# Altium integrated library Microchip Power Mgt Line Regulator.IntLib: 1066 symbols (part 23 of 26)
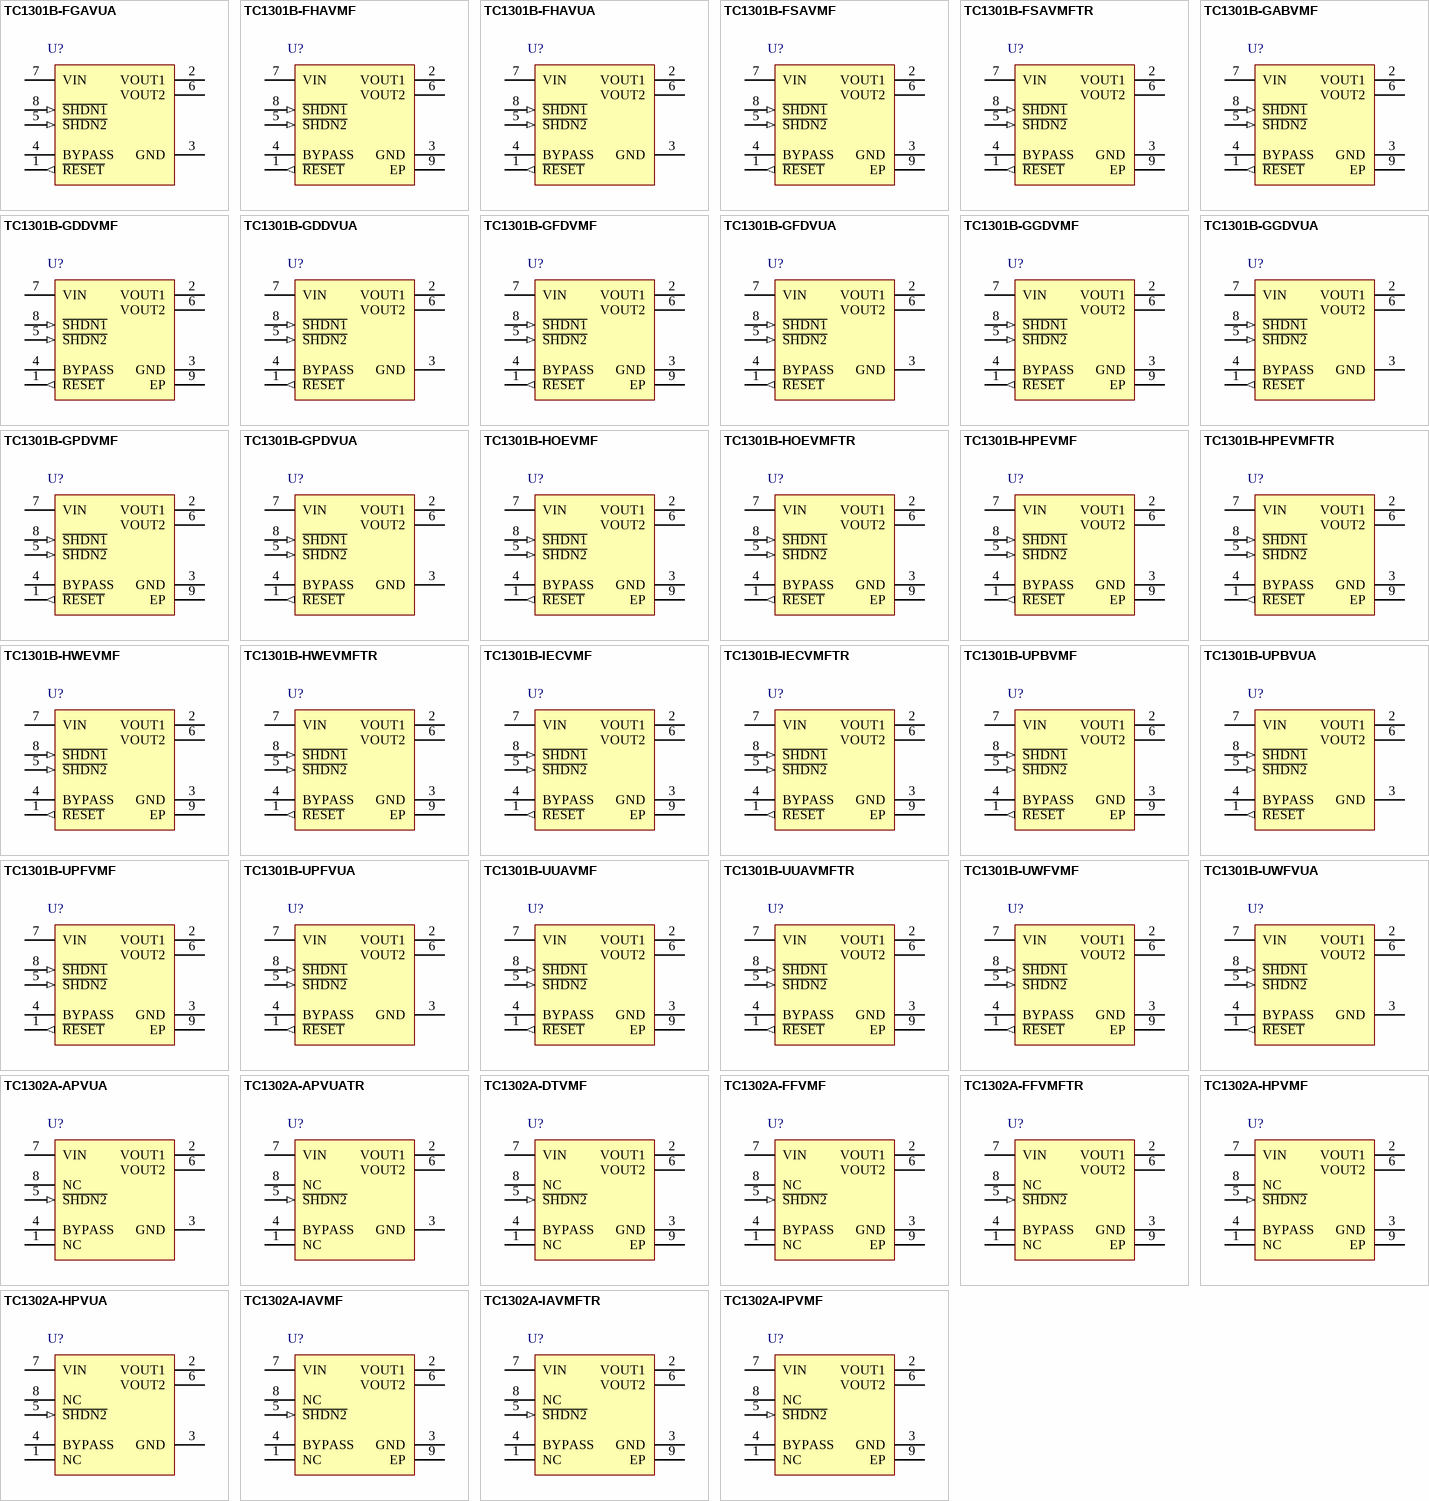
[diagram p48: symbols TC1301B-FGAVUA to TC1302A-IPVMF]

## TC1301B-GABVMF
designator U?
Dual LDO with Microcontroller Active-Low Reset Function, 8-Pin DFN, Extended Temperature; Published: 2-Dec-2009; DatasheetVersion: revC, Feb-2008; PackageVersion: revBB, Aug-2009; PackageReference: DFN-MF8; Publisher: Altium Limited; PackageDescription: 8-Lead Plastic Dual Flat, No Lead Package (MF) - 3x3x0.9mm Body [DFN]; ComponentLink1Description: Datasheet; ComponentLink1URL: http://ww1.microchip.com/downloads/en/DeviceDoc/21798c.pdf; ComponentLink2Description: Packaging Specification; ComponentLink2URL: http://www.microchip.com/stellent/groups/techpub_sg/documents/packagingspec/en012702.pdf; ComponentLink3Description: Microchip.com Home; ComponentLink3URL: http://www.microchip.com/
footprint DFN-MF8 (SON, 8-Leads, Body 3x3mm, Pitch 0.65mm, Microchip Recommended)
pins: 1 ~{RESET} (out), 2 VOUT1 (power), 3 GND (power), 4 BYPASS, 5 ~{SHDN2} (in), 6 VOUT2 (power), 7 VIN (power), 8 ~{SHDN1} (in), 9 EP (power)

## TC1301B-GDDVMF
designator U?
Dual LDO with Microcontroller Active-Low Reset Function, 8-Pin DFN, Extended Temperature; Published: 29-Jan-2009; DatasheetVersion: revC, Feb-2008; PackageVersion: revBB, Aug-2009; PackageReference: DFN-MF8; Publisher: Altium Limited; PackageDescription: 8-Lead Plastic Dual Flat, No Lead Package (MF) - 3x3x0.9mm Body [DFN]; Supplier 1: Digi-Key; Supplier Part Number 1: TC1301B-GDDVMF-ND; ComponentLink1Description: Datasheet; ComponentLink1URL: http://ww1.microchip.com/downloads/en/DeviceDoc/21798c.pdf; ComponentLink2Description: Packaging Specification; ComponentLink2URL: http://www.microchip.com/stellent/groups/techpub_sg/documents/packagingspec/en012702.pdf; ComponentLink3Description: Microchip.com Home; ComponentLink3URL: http://www.microchip.com/
footprint DFN-MF8 (SON, 8-Leads, Body 3x3mm, Pitch 0.65mm, Microchip Recommended)
pins: 1 ~{RESET} (out), 2 VOUT1 (power), 3 GND (power), 4 BYPASS, 5 ~{SHDN2} (in), 6 VOUT2 (power), 7 VIN (power), 8 ~{SHDN1} (in), 9 EP (power)

## TC1301B-GDDVUA
designator U?
Dual LDO with Microcontroller Active-Low Reset Function, 8-Pin MSOP, Extended Temperature; Published: 29-Jan-2009; DatasheetVersion: revC, Feb-2008; PackageVersion: revBB, Aug-2009; PackageReference: MSOP-UA8; Publisher: Altium Limited; PackageDescription: 8-Lead Plastic Micro Small Outline Package (UA) [MSOP]; Supplier 1: Digi-Key; Supplier Part Number 1: TC1301B-GDDVUA-ND; Code_JEDEC: MO-187-AA; ComponentLink1Description: Datasheet; ComponentLink1URL: http://ww1.microchip.com/downloads/en/DeviceDoc/21798c.pdf; ComponentLink2Description: Packaging Specification; ComponentLink2URL: http://www.microchip.com/stellent/groups/techpub_sg/documents/packagingspec/en012702.pdf; ComponentLink3Description: Microchip.com Home; ComponentLink3URL: http://www.microchip.com/
footprint MSOP-UA8_N (TSOP, 8-Leads, Body 3x3mm, Pitch 0.65mm, IPC Medium Density)
footprint MSOP-UA8_L (TSOP, 8-Leads, Body 3x3mm, Pitch 0.65mm, IPC High Density)
footprint MSOP-UA8_M (TSOP, 8-Leads, Body 3x3mm, Pitch 0.65mm, IPC Low Density)
pins: 1 ~{RESET} (out), 2 VOUT1 (power), 3 GND (power), 4 BYPASS, 5 ~{SHDN2} (in), 6 VOUT2 (power), 7 VIN (power), 8 ~{SHDN1} (in)

## TC1301B-GFDVMF
designator U?
Dual LDO with Microcontroller Active-Low Reset Function, 8-Pin DFN, Extended Temperature; Published: 29-Jan-2009; DatasheetVersion: revC, Feb-2008; PackageVersion: revBB, Aug-2009; PackageReference: DFN-MF8; Publisher: Altium Limited; PackageDescription: 8-Lead Plastic Dual Flat, No Lead Package (MF) - 3x3x0.9mm Body [DFN]; Supplier 1: Digi-Key; Supplier Part Number 1: TC1301B-GFDVMF-ND; ComponentLink1Description: Datasheet; ComponentLink1URL: http://ww1.microchip.com/downloads/en/DeviceDoc/21798c.pdf; ComponentLink2Description: Packaging Specification; ComponentLink2URL: http://www.microchip.com/stellent/groups/techpub_sg/documents/packagingspec/en012702.pdf; ComponentLink3Description: Microchip.com Home; ComponentLink3URL: http://www.microchip.com/
footprint DFN-MF8 (SON, 8-Leads, Body 3x3mm, Pitch 0.65mm, Microchip Recommended)
pins: 1 ~{RESET} (out), 2 VOUT1 (power), 3 GND (power), 4 BYPASS, 5 ~{SHDN2} (in), 6 VOUT2 (power), 7 VIN (power), 8 ~{SHDN1} (in), 9 EP (power)

## TC1301B-GFDVUA
designator U?
Dual LDO with Microcontroller Active-Low Reset Function, 8-Pin MSOP, Extended Temperature; Published: 29-Jan-2009; DatasheetVersion: revC, Feb-2008; PackageVersion: revBB, Aug-2009; PackageReference: MSOP-UA8; Publisher: Altium Limited; PackageDescription: 8-Lead Plastic Micro Small Outline Package (UA) [MSOP]; Supplier 1: Digi-Key; Supplier Part Number 1: TC1301B-GFDVUA-ND; Code_JEDEC: MO-187-AA; ComponentLink1Description: Datasheet; ComponentLink1URL: http://ww1.microchip.com/downloads/en/DeviceDoc/21798c.pdf; ComponentLink2Description: Packaging Specification; ComponentLink2URL: http://www.microchip.com/stellent/groups/techpub_sg/documents/packagingspec/en012702.pdf; ComponentLink3Description: Microchip.com Home; ComponentLink3URL: http://www.microchip.com/
footprint MSOP-UA8_N (TSOP, 8-Leads, Body 3x3mm, Pitch 0.65mm, IPC Medium Density)
footprint MSOP-UA8_L (TSOP, 8-Leads, Body 3x3mm, Pitch 0.65mm, IPC High Density)
footprint MSOP-UA8_M (TSOP, 8-Leads, Body 3x3mm, Pitch 0.65mm, IPC Low Density)
pins: 1 ~{RESET} (out), 2 VOUT1 (power), 3 GND (power), 4 BYPASS, 5 ~{SHDN2} (in), 6 VOUT2 (power), 7 VIN (power), 8 ~{SHDN1} (in)

## TC1301B-GGDVMF
designator U?
Dual LDO with Microcontroller Active-Low Reset Function, 8-Pin DFN, Extended Temperature; Published: 29-Jan-2009; DatasheetVersion: revC, Feb-2008; PackageVersion: revBB, Aug-2009; PackageReference: DFN-MF8; Publisher: Altium Limited; PackageDescription: 8-Lead Plastic Dual Flat, No Lead Package (MF) - 3x3x0.9mm Body [DFN]; ComponentLink1Description: Datasheet; ComponentLink1URL: http://ww1.microchip.com/downloads/en/DeviceDoc/21798c.pdf; ComponentLink2Description: Packaging Specification; ComponentLink2URL: http://www.microchip.com/stellent/groups/techpub_sg/documents/packagingspec/en012702.pdf; ComponentLink3Description: Microchip.com Home; ComponentLink3URL: http://www.microchip.com/
footprint DFN-MF8 (SON, 8-Leads, Body 3x3mm, Pitch 0.65mm, Microchip Recommended)
pins: 1 ~{RESET} (out), 2 VOUT1 (power), 3 GND (power), 4 BYPASS, 5 ~{SHDN2} (in), 6 VOUT2 (power), 7 VIN (power), 8 ~{SHDN1} (in), 9 EP (power)

## TC1301B-GGDVUA
designator U?
Dual LDO with Microcontroller Active-Low Reset Function, 8-Pin MSOP, Extended Temperature; Published: 29-Jan-2009; DatasheetVersion: revC, Feb-2008; PackageVersion: revBB, Aug-2009; PackageReference: MSOP-UA8; Publisher: Altium Limited; PackageDescription: 8-Lead Plastic Micro Small Outline Package (UA) [MSOP]; Code_JEDEC: MO-187-AA; ComponentLink1Description: Datasheet; ComponentLink1URL: http://ww1.microchip.com/downloads/en/DeviceDoc/21798c.pdf; ComponentLink2Description: Packaging Specification; ComponentLink2URL: http://www.microchip.com/stellent/groups/techpub_sg/documents/packagingspec/en012702.pdf; ComponentLink3Description: Microchip.com Home; ComponentLink3URL: http://www.microchip.com/
footprint MSOP-UA8_N (TSOP, 8-Leads, Body 3x3mm, Pitch 0.65mm, IPC Medium Density)
footprint MSOP-UA8_L (TSOP, 8-Leads, Body 3x3mm, Pitch 0.65mm, IPC High Density)
footprint MSOP-UA8_M (TSOP, 8-Leads, Body 3x3mm, Pitch 0.65mm, IPC Low Density)
pins: 1 ~{RESET} (out), 2 VOUT1 (power), 3 GND (power), 4 BYPASS, 5 ~{SHDN2} (in), 6 VOUT2 (power), 7 VIN (power), 8 ~{SHDN1} (in)

## TC1301B-GPDVMF
designator U?
Dual LDO with Microcontroller Active-Low Reset Function, 8-Pin DFN, Extended Temperature; Published: 29-Jan-2009; DatasheetVersion: revC, Feb-2008; PackageVersion: revBB, Aug-2009; PackageReference: DFN-MF8; Publisher: Altium Limited; PackageDescription: 8-Lead Plastic Dual Flat, No Lead Package (MF) - 3x3x0.9mm Body [DFN]; ComponentLink1Description: Datasheet; ComponentLink1URL: http://ww1.microchip.com/downloads/en/DeviceDoc/21798c.pdf; ComponentLink2Description: Packaging Specification; ComponentLink2URL: http://www.microchip.com/stellent/groups/techpub_sg/documents/packagingspec/en012702.pdf; ComponentLink3Description: Microchip.com Home; ComponentLink3URL: http://www.microchip.com/
footprint DFN-MF8 (SON, 8-Leads, Body 3x3mm, Pitch 0.65mm, Microchip Recommended)
pins: 1 ~{RESET} (out), 2 VOUT1 (power), 3 GND (power), 4 BYPASS, 5 ~{SHDN2} (in), 6 VOUT2 (power), 7 VIN (power), 8 ~{SHDN1} (in), 9 EP (power)

## TC1301B-GPDVUA
designator U?
Dual LDO with Microcontroller Active-Low Reset Function, 8-Pin MSOP, Extended Temperature; Published: 29-Jan-2009; DatasheetVersion: revC, Feb-2008; PackageVersion: revBB, Aug-2009; PackageReference: MSOP-UA8; Publisher: Altium Limited; PackageDescription: 8-Lead Plastic Micro Small Outline Package (UA) [MSOP]; Code_JEDEC: MO-187-AA; ComponentLink1Description: Datasheet; ComponentLink1URL: http://ww1.microchip.com/downloads/en/DeviceDoc/21798c.pdf; ComponentLink2Description: Packaging Specification; ComponentLink2URL: http://www.microchip.com/stellent/groups/techpub_sg/documents/packagingspec/en012702.pdf; ComponentLink3Description: Microchip.com Home; ComponentLink3URL: http://www.microchip.com/
footprint MSOP-UA8_N (TSOP, 8-Leads, Body 3x3mm, Pitch 0.65mm, IPC Medium Density)
footprint MSOP-UA8_L (TSOP, 8-Leads, Body 3x3mm, Pitch 0.65mm, IPC High Density)
footprint MSOP-UA8_M (TSOP, 8-Leads, Body 3x3mm, Pitch 0.65mm, IPC Low Density)
pins: 1 ~{RESET} (out), 2 VOUT1 (power), 3 GND (power), 4 BYPASS, 5 ~{SHDN2} (in), 6 VOUT2 (power), 7 VIN (power), 8 ~{SHDN1} (in)

## TC1301B-HOEVMF
designator U?
Dual LDO with Microcontroller Active-Low Reset Function, 8-Pin DFN, Extended Temperature; Published: 29-Jan-2009; DatasheetVersion: revC, Feb-2008; PackageVersion: revBB, Aug-2009; PackageReference: DFN-MF8; Publisher: Altium Limited; PackageDescription: 8-Lead Plastic Dual Flat, No Lead Package (MF) - 3x3x0.9mm Body [DFN]; ComponentLink1Description: Datasheet; ComponentLink1URL: http://ww1.microchip.com/downloads/en/DeviceDoc/21798c.pdf; ComponentLink2Description: Packaging Specification; ComponentLink2URL: http://www.microchip.com/stellent/groups/techpub_sg/documents/packagingspec/en012702.pdf; ComponentLink3Description: Microchip.com Home; ComponentLink3URL: http://www.microchip.com/
footprint DFN-MF8 (SON, 8-Leads, Body 3x3mm, Pitch 0.65mm, Microchip Recommended)
pins: 1 ~{RESET} (out), 2 VOUT1 (power), 3 GND (power), 4 BYPASS, 5 ~{SHDN2} (in), 6 VOUT2 (power), 7 VIN (power), 8 ~{SHDN1} (in), 9 EP (power)

## TC1301B-HOEVMFTR
designator U?
Dual LDO with Microcontroller Active-Low Reset Function, 8-Pin DFN, Extended Temperature, Tape and Reel; Published: 29-Jan-2009; DatasheetVersion: revC, Feb-2008; PackageVersion: revBB, Aug-2009; PackageReference: DFN-MF8; Publisher: Altium Limited; PackageDescription: 8-Lead Plastic Dual Flat, No Lead Package (MF) - 3x3x0.9mm Body [DFN]; ComponentLink1Description: Datasheet; ComponentLink1URL: http://ww1.microchip.com/downloads/en/DeviceDoc/21798c.pdf; ComponentLink2Description: Packaging Specification; ComponentLink2URL: http://www.microchip.com/stellent/groups/techpub_sg/documents/packagingspec/en012702.pdf; ComponentLink3Description: Microchip.com Home; ComponentLink3URL: http://www.microchip.com/
footprint DFN-MF8 (SON, 8-Leads, Body 3x3mm, Pitch 0.65mm, Microchip Recommended)
pins: 1 ~{RESET} (out), 2 VOUT1 (power), 3 GND (power), 4 BYPASS, 5 ~{SHDN2} (in), 6 VOUT2 (power), 7 VIN (power), 8 ~{SHDN1} (in), 9 EP (power)

## TC1301B-HPEVMF
designator U?
Dual LDO with Microcontroller Active-Low Reset Function, 8-Pin DFN, Extended Temperature; Published: 29-Jan-2009; DatasheetVersion: revC, Feb-2008; PackageVersion: revBB, Aug-2009; PackageReference: DFN-MF8; Publisher: Altium Limited; PackageDescription: 8-Lead Plastic Dual Flat, No Lead Package (MF) - 3x3x0.9mm Body [DFN]; ComponentLink1Description: Datasheet; ComponentLink1URL: http://ww1.microchip.com/downloads/en/DeviceDoc/21798c.pdf; ComponentLink2Description: Packaging Specification; ComponentLink2URL: http://www.microchip.com/stellent/groups/techpub_sg/documents/packagingspec/en012702.pdf; ComponentLink3Description: Microchip.com Home; ComponentLink3URL: http://www.microchip.com/
footprint DFN-MF8 (SON, 8-Leads, Body 3x3mm, Pitch 0.65mm, Microchip Recommended)
pins: 1 ~{RESET} (out), 2 VOUT1 (power), 3 GND (power), 4 BYPASS, 5 ~{SHDN2} (in), 6 VOUT2 (power), 7 VIN (power), 8 ~{SHDN1} (in), 9 EP (power)

## TC1301B-HPEVMFTR
designator U?
Dual LDO with Microcontroller Active-Low Reset Function, 8-Pin DFN, Extended Temperature, Tape and Reel; Published: 29-Jan-2009; DatasheetVersion: revC, Feb-2008; PackageVersion: revBB, Aug-2009; PackageReference: DFN-MF8; Publisher: Altium Limited; PackageDescription: 8-Lead Plastic Dual Flat, No Lead Package (MF) - 3x3x0.9mm Body [DFN]; ComponentLink1Description: Datasheet; ComponentLink1URL: http://ww1.microchip.com/downloads/en/DeviceDoc/21798c.pdf; ComponentLink2Description: Packaging Specification; ComponentLink2URL: http://www.microchip.com/stellent/groups/techpub_sg/documents/packagingspec/en012702.pdf; ComponentLink3Description: Microchip.com Home; ComponentLink3URL: http://www.microchip.com/
footprint DFN-MF8 (SON, 8-Leads, Body 3x3mm, Pitch 0.65mm, Microchip Recommended)
pins: 1 ~{RESET} (out), 2 VOUT1 (power), 3 GND (power), 4 BYPASS, 5 ~{SHDN2} (in), 6 VOUT2 (power), 7 VIN (power), 8 ~{SHDN1} (in), 9 EP (power)

## TC1301B-HWEVMF
designator U?
Dual LDO with Microcontroller Active-Low Reset Function, 8-Pin DFN, Extended Temperature; Published: 29-Jan-2009; DatasheetVersion: revC, Feb-2008; PackageVersion: revBB, Aug-2009; PackageReference: DFN-MF8; Publisher: Altium Limited; PackageDescription: 8-Lead Plastic Dual Flat, No Lead Package (MF) - 3x3x0.9mm Body [DFN]; ComponentLink1Description: Datasheet; ComponentLink1URL: http://ww1.microchip.com/downloads/en/DeviceDoc/21798c.pdf; ComponentLink2Description: Packaging Specification; ComponentLink2URL: http://www.microchip.com/stellent/groups/techpub_sg/documents/packagingspec/en012702.pdf; ComponentLink3Description: Microchip.com Home; ComponentLink3URL: http://www.microchip.com/
footprint DFN-MF8 (SON, 8-Leads, Body 3x3mm, Pitch 0.65mm, Microchip Recommended)
pins: 1 ~{RESET} (out), 2 VOUT1 (power), 3 GND (power), 4 BYPASS, 5 ~{SHDN2} (in), 6 VOUT2 (power), 7 VIN (power), 8 ~{SHDN1} (in), 9 EP (power)

## TC1301B-HWEVMFTR
designator U?
Dual LDO with Microcontroller Active-Low Reset Function, 8-Pin DFN, Extended Temperature, Tape and Reel; Published: 29-Jan-2009; DatasheetVersion: revC, Feb-2008; PackageVersion: revBB, Aug-2009; PackageReference: DFN-MF8; Publisher: Altium Limited; PackageDescription: 8-Lead Plastic Dual Flat, No Lead Package (MF) - 3x3x0.9mm Body [DFN]; ComponentLink1Description: Datasheet; ComponentLink1URL: http://ww1.microchip.com/downloads/en/DeviceDoc/21798c.pdf; ComponentLink2Description: Packaging Specification; ComponentLink2URL: http://www.microchip.com/stellent/groups/techpub_sg/documents/packagingspec/en012702.pdf; ComponentLink3Description: Microchip.com Home; ComponentLink3URL: http://www.microchip.com/
footprint DFN-MF8 (SON, 8-Leads, Body 3x3mm, Pitch 0.65mm, Microchip Recommended)
pins: 1 ~{RESET} (out), 2 VOUT1 (power), 3 GND (power), 4 BYPASS, 5 ~{SHDN2} (in), 6 VOUT2 (power), 7 VIN (power), 8 ~{SHDN1} (in), 9 EP (power)

## TC1301B-IECVMF
designator U?
Dual LDO with Microcontroller Active-Low Reset Function, 8-Pin DFN, Extended Temperature; Published: 29-Jan-2009; DatasheetVersion: revC, Feb-2008; PackageVersion: revBB, Aug-2009; PackageReference: DFN-MF8; Publisher: Altium Limited; PackageDescription: 8-Lead Plastic Dual Flat, No Lead Package (MF) - 3x3x0.9mm Body [DFN]; ComponentLink1Description: Datasheet; ComponentLink1URL: http://ww1.microchip.com/downloads/en/DeviceDoc/21798c.pdf; ComponentLink2Description: Packaging Specification; ComponentLink2URL: http://www.microchip.com/stellent/groups/techpub_sg/documents/packagingspec/en012702.pdf; ComponentLink3Description: Microchip.com Home; ComponentLink3URL: http://www.microchip.com/
footprint DFN-MF8 (SON, 8-Leads, Body 3x3mm, Pitch 0.65mm, Microchip Recommended)
pins: 1 ~{RESET} (out), 2 VOUT1 (power), 3 GND (power), 4 BYPASS, 5 ~{SHDN2} (in), 6 VOUT2 (power), 7 VIN (power), 8 ~{SHDN1} (in), 9 EP (power)

## TC1301B-IECVMFTR
designator U?
Dual LDO with Microcontroller Active-Low Reset Function, 8-Pin DFN, Extended Temperature, Tape and Reel; Published: 29-Jan-2009; DatasheetVersion: revC, Feb-2008; PackageVersion: revBB, Aug-2009; PackageReference: DFN-MF8; Publisher: Altium Limited; PackageDescription: 8-Lead Plastic Dual Flat, No Lead Package (MF) - 3x3x0.9mm Body [DFN]; ComponentLink1Description: Datasheet; ComponentLink1URL: http://ww1.microchip.com/downloads/en/DeviceDoc/21798c.pdf; ComponentLink2Description: Packaging Specification; ComponentLink2URL: http://www.microchip.com/stellent/groups/techpub_sg/documents/packagingspec/en012702.pdf; ComponentLink3Description: Microchip.com Home; ComponentLink3URL: http://www.microchip.com/
footprint DFN-MF8 (SON, 8-Leads, Body 3x3mm, Pitch 0.65mm, Microchip Recommended)
pins: 1 ~{RESET} (out), 2 VOUT1 (power), 3 GND (power), 4 BYPASS, 5 ~{SHDN2} (in), 6 VOUT2 (power), 7 VIN (power), 8 ~{SHDN1} (in), 9 EP (power)

## TC1301B-UPBVMF
designator U?
Dual LDO with Microcontroller Active-Low Reset Function, 8-Pin DFN, Extended Temperature; Published: 29-Jan-2009; DatasheetVersion: revC, Feb-2008; PackageVersion: revBB, Aug-2009; PackageReference: DFN-MF8; Publisher: Altium Limited; PackageDescription: 8-Lead Plastic Dual Flat, No Lead Package (MF) - 3x3x0.9mm Body [DFN]; ComponentLink1Description: Datasheet; ComponentLink1URL: http://ww1.microchip.com/downloads/en/DeviceDoc/21798c.pdf; ComponentLink2Description: Packaging Specification; ComponentLink2URL: http://www.microchip.com/stellent/groups/techpub_sg/documents/packagingspec/en012702.pdf; ComponentLink3Description: Microchip.com Home; ComponentLink3URL: http://www.microchip.com/
footprint DFN-MF8 (SON, 8-Leads, Body 3x3mm, Pitch 0.65mm, Microchip Recommended)
pins: 1 ~{RESET} (out), 2 VOUT1 (power), 3 GND (power), 4 BYPASS, 5 ~{SHDN2} (in), 6 VOUT2 (power), 7 VIN (power), 8 ~{SHDN1} (in), 9 EP (power)

## TC1301B-UPBVUA
designator U?
Dual LDO with Microcontroller Active-Low Reset Function, 8-Pin MSOP, Extended Temperature; Published: 29-Jan-2009; DatasheetVersion: revC, Feb-2008; PackageVersion: revBB, Aug-2009; PackageReference: MSOP-UA8; Publisher: Altium Limited; PackageDescription: 8-Lead Plastic Micro Small Outline Package (UA) [MSOP]; Code_JEDEC: MO-187-AA; ComponentLink1Description: Datasheet; ComponentLink1URL: http://ww1.microchip.com/downloads/en/DeviceDoc/21798c.pdf; ComponentLink2Description: Packaging Specification; ComponentLink2URL: http://www.microchip.com/stellent/groups/techpub_sg/documents/packagingspec/en012702.pdf; ComponentLink3Description: Microchip.com Home; ComponentLink3URL: http://www.microchip.com/
footprint MSOP-UA8_N (TSOP, 8-Leads, Body 3x3mm, Pitch 0.65mm, IPC Medium Density)
footprint MSOP-UA8_L (TSOP, 8-Leads, Body 3x3mm, Pitch 0.65mm, IPC High Density)
footprint MSOP-UA8_M (TSOP, 8-Leads, Body 3x3mm, Pitch 0.65mm, IPC Low Density)
pins: 1 ~{RESET} (out), 2 VOUT1 (power), 3 GND (power), 4 BYPASS, 5 ~{SHDN2} (in), 6 VOUT2 (power), 7 VIN (power), 8 ~{SHDN1} (in)

## TC1301B-UPFVMF
designator U?
Dual LDO with Microcontroller Active-Low Reset Function, 8-Pin DFN, Extended Temperature; Published: 29-Jan-2009; DatasheetVersion: revC, Feb-2008; PackageVersion: revBB, Aug-2009; PackageReference: DFN-MF8; Publisher: Altium Limited; PackageDescription: 8-Lead Plastic Dual Flat, No Lead Package (MF) - 3x3x0.9mm Body [DFN]; ComponentLink1Description: Datasheet; ComponentLink1URL: http://ww1.microchip.com/downloads/en/DeviceDoc/21798c.pdf; ComponentLink2Description: Packaging Specification; ComponentLink2URL: http://www.microchip.com/stellent/groups/techpub_sg/documents/packagingspec/en012702.pdf; ComponentLink3Description: Microchip.com Home; ComponentLink3URL: http://www.microchip.com/
footprint DFN-MF8 (SON, 8-Leads, Body 3x3mm, Pitch 0.65mm, Microchip Recommended)
pins: 1 ~{RESET} (out), 2 VOUT1 (power), 3 GND (power), 4 BYPASS, 5 ~{SHDN2} (in), 6 VOUT2 (power), 7 VIN (power), 8 ~{SHDN1} (in), 9 EP (power)

## TC1301B-UPFVUA
designator U?
Dual LDO with Microcontroller Active-Low Reset Function, 8-Pin MSOP, Extended Temperature; Published: 29-Jan-2009; DatasheetVersion: revC, Feb-2008; PackageVersion: revBB, Aug-2009; PackageReference: MSOP-UA8; Publisher: Altium Limited; PackageDescription: 8-Lead Plastic Micro Small Outline Package (UA) [MSOP]; Code_JEDEC: MO-187-AA; ComponentLink1Description: Datasheet; ComponentLink1URL: http://ww1.microchip.com/downloads/en/DeviceDoc/21798c.pdf; ComponentLink2Description: Packaging Specification; ComponentLink2URL: http://www.microchip.com/stellent/groups/techpub_sg/documents/packagingspec/en012702.pdf; ComponentLink3Description: Microchip.com Home; ComponentLink3URL: http://www.microchip.com/
footprint MSOP-UA8_N (TSOP, 8-Leads, Body 3x3mm, Pitch 0.65mm, IPC Medium Density)
footprint MSOP-UA8_L (TSOP, 8-Leads, Body 3x3mm, Pitch 0.65mm, IPC High Density)
footprint MSOP-UA8_M (TSOP, 8-Leads, Body 3x3mm, Pitch 0.65mm, IPC Low Density)
pins: 1 ~{RESET} (out), 2 VOUT1 (power), 3 GND (power), 4 BYPASS, 5 ~{SHDN2} (in), 6 VOUT2 (power), 7 VIN (power), 8 ~{SHDN1} (in)

## TC1301B-UUAVMF
designator U?
Dual LDO with Microcontroller Active-Low Reset Function, 8-Pin DFN, Extended Temperature; Published: 29-Jan-2009; DatasheetVersion: revC, Feb-2008; PackageVersion: revBB, Aug-2009; PackageReference: DFN-MF8; Publisher: Altium Limited; PackageDescription: 8-Lead Plastic Dual Flat, No Lead Package (MF) - 3x3x0.9mm Body [DFN]; ComponentLink1Description: Datasheet; ComponentLink1URL: http://ww1.microchip.com/downloads/en/DeviceDoc/21798c.pdf; ComponentLink2Description: Packaging Specification; ComponentLink2URL: http://www.microchip.com/stellent/groups/techpub_sg/documents/packagingspec/en012702.pdf; ComponentLink3Description: Microchip.com Home; ComponentLink3URL: http://www.microchip.com/
footprint DFN-MF8 (SON, 8-Leads, Body 3x3mm, Pitch 0.65mm, Microchip Recommended)
pins: 1 ~{RESET} (out), 2 VOUT1 (power), 3 GND (power), 4 BYPASS, 5 ~{SHDN2} (in), 6 VOUT2 (power), 7 VIN (power), 8 ~{SHDN1} (in), 9 EP (power)

## TC1301B-UUAVMFTR
designator U?
Dual LDO with Microcontroller Active-Low Reset Function, 8-Pin DFN, Extended Temperature, Tape and Reel; Published: 29-Jan-2009; DatasheetVersion: revC, Feb-2008; PackageVersion: revBB, Aug-2009; PackageReference: DFN-MF8; Publisher: Altium Limited; PackageDescription: 8-Lead Plastic Dual Flat, No Lead Package (MF) - 3x3x0.9mm Body [DFN]; ComponentLink1Description: Datasheet; ComponentLink1URL: http://ww1.microchip.com/downloads/en/DeviceDoc/21798c.pdf; ComponentLink2Description: Packaging Specification; ComponentLink2URL: http://www.microchip.com/stellent/groups/techpub_sg/documents/packagingspec/en012702.pdf; ComponentLink3Description: Microchip.com Home; ComponentLink3URL: http://www.microchip.com/
footprint DFN-MF8 (SON, 8-Leads, Body 3x3mm, Pitch 0.65mm, Microchip Recommended)
pins: 1 ~{RESET} (out), 2 VOUT1 (power), 3 GND (power), 4 BYPASS, 5 ~{SHDN2} (in), 6 VOUT2 (power), 7 VIN (power), 8 ~{SHDN1} (in), 9 EP (power)

## TC1301B-UWFVMF
designator U?
Dual LDO with Microcontroller Active-Low Reset Function, 8-Pin DFN, Extended Temperature; Published: 29-Jan-2009; DatasheetVersion: revC, Feb-2008; PackageVersion: revBB, Aug-2009; PackageReference: DFN-MF8; Publisher: Altium Limited; PackageDescription: 8-Lead Plastic Dual Flat, No Lead Package (MF) - 3x3x0.9mm Body [DFN]; ComponentLink1Description: Datasheet; ComponentLink1URL: http://ww1.microchip.com/downloads/en/DeviceDoc/21798c.pdf; ComponentLink2Description: Packaging Specification; ComponentLink2URL: http://www.microchip.com/stellent/groups/techpub_sg/documents/packagingspec/en012702.pdf; ComponentLink3Description: Microchip.com Home; ComponentLink3URL: http://www.microchip.com/
footprint DFN-MF8 (SON, 8-Leads, Body 3x3mm, Pitch 0.65mm, Microchip Recommended)
pins: 1 ~{RESET} (out), 2 VOUT1 (power), 3 GND (power), 4 BYPASS, 5 ~{SHDN2} (in), 6 VOUT2 (power), 7 VIN (power), 8 ~{SHDN1} (in), 9 EP (power)

## TC1301B-UWFVUA
designator U?
Dual LDO with Microcontroller Active-Low Reset Function, 8-Pin MSOP, Extended Temperature; Published: 29-Jan-2009; DatasheetVersion: revC, Feb-2008; PackageVersion: revBB, Aug-2009; PackageReference: MSOP-UA8; Publisher: Altium Limited; PackageDescription: 8-Lead Plastic Micro Small Outline Package (UA) [MSOP]; Code_JEDEC: MO-187-AA; ComponentLink1Description: Datasheet; ComponentLink1URL: http://ww1.microchip.com/downloads/en/DeviceDoc/21798c.pdf; ComponentLink2Description: Packaging Specification; ComponentLink2URL: http://www.microchip.com/stellent/groups/techpub_sg/documents/packagingspec/en012702.pdf; ComponentLink3Description: Microchip.com Home; ComponentLink3URL: http://www.microchip.com/
footprint MSOP-UA8_N (TSOP, 8-Leads, Body 3x3mm, Pitch 0.65mm, IPC Medium Density)
footprint MSOP-UA8_L (TSOP, 8-Leads, Body 3x3mm, Pitch 0.65mm, IPC High Density)
footprint MSOP-UA8_M (TSOP, 8-Leads, Body 3x3mm, Pitch 0.65mm, IPC Low Density)
pins: 1 ~{RESET} (out), 2 VOUT1 (power), 3 GND (power), 4 BYPASS, 5 ~{SHDN2} (in), 6 VOUT2 (power), 7 VIN (power), 8 ~{SHDN1} (in)

## TC1302A-APVUA
designator U?
Low Quiescent Current Dual Output LDO, 8-Pin MSOP, Extended Temperature; Published: 29-Jan-2009; DatasheetVersion: revB, Jan-2005; PackageVersion: revBB, Aug-2009; PackageReference: MSOP-UA8; Publisher: Altium Limited; PackageDescription: 8-Lead Plastic Micro Small Outline Package (UA) [MSOP]; Code_JEDEC: MO-187-AA; ComponentLink1Description: Datasheet; ComponentLink1URL: http://ww1.microchip.com/downloads/en/DeviceDoc/21333b.pdf; ComponentLink2Description: Packaging Specification; ComponentLink2URL: http://www.microchip.com/stellent/groups/techpub_sg/documents/packagingspec/en012702.pdf; ComponentLink3Description: Microchip.com Home; ComponentLink3URL: http://www.microchip.com/
footprint MSOP-UA8_N (TSOP, 8-Leads, Body 3x3mm, Pitch 0.65mm, IPC Medium Density)
footprint MSOP-UA8_L (TSOP, 8-Leads, Body 3x3mm, Pitch 0.65mm, IPC High Density)
footprint MSOP-UA8_M (TSOP, 8-Leads, Body 3x3mm, Pitch 0.65mm, IPC Low Density)
pins: 1 NC, 2 VOUT1 (power), 3 GND (power), 4 BYPASS, 5 ~{SHDN2} (in), 6 VOUT2 (power), 7 VIN (power), 8 NC

## TC1302A-APVUATR
designator U?
Low Quiescent Current Dual Output LDO, 8-Pin MSOP, Extended Temperature, Tape and Reel; Published: 29-Jan-2009; DatasheetVersion: revB, Jan-2005; PackageVersion: revBB, Aug-2009; PackageReference: MSOP-UA8; Publisher: Altium Limited; PackageDescription: 8-Lead Plastic Micro Small Outline Package (UA) [MSOP]; Code_JEDEC: MO-187-AA; ComponentLink1Description: Datasheet; ComponentLink1URL: http://ww1.microchip.com/downloads/en/DeviceDoc/21333b.pdf; ComponentLink2Description: Packaging Specification; ComponentLink2URL: http://www.microchip.com/stellent/groups/techpub_sg/documents/packagingspec/en012702.pdf; ComponentLink3Description: Microchip.com Home; ComponentLink3URL: http://www.microchip.com/
footprint MSOP-UA8_N (TSOP, 8-Leads, Body 3x3mm, Pitch 0.65mm, IPC Medium Density)
footprint MSOP-UA8_L (TSOP, 8-Leads, Body 3x3mm, Pitch 0.65mm, IPC High Density)
footprint MSOP-UA8_M (TSOP, 8-Leads, Body 3x3mm, Pitch 0.65mm, IPC Low Density)
pins: 1 NC, 2 VOUT1 (power), 3 GND (power), 4 BYPASS, 5 ~{SHDN2} (in), 6 VOUT2 (power), 7 VIN (power), 8 NC

## TC1302A-DTVMF
designator U?
Low Quiescent Current Dual Output LDO, 8-Pin DFN, Extended Temperature; Published: 29-Jan-2009; DatasheetVersion: revB, Jan-2005; PackageVersion: revBB, Aug-2009; PackageReference: DFN-MF8; Publisher: Altium Limited; PackageDescription: 8-Lead Plastic Dual Flat, No Lead Package (MF) - 3x3x0.9mm Body [DFN]; Supplier 1: Digi-Key; Supplier Part Number 1: TC1302A-DTVMF-ND; ComponentLink1Description: Datasheet; ComponentLink1URL: http://ww1.microchip.com/downloads/en/DeviceDoc/21333b.pdf; ComponentLink2Description: Packaging Specification; ComponentLink2URL: http://www.microchip.com/stellent/groups/techpub_sg/documents/packagingspec/en012702.pdf; ComponentLink3Description: Microchip.com Home; ComponentLink3URL: http://www.microchip.com/
footprint DFN-MF8 (SON, 8-Leads, Body 3x3mm, Pitch 0.65mm, Microchip Recommended)
pins: 1 NC, 2 VOUT1 (power), 3 GND (power), 4 BYPASS, 5 ~{SHDN2} (in), 6 VOUT2 (power), 7 VIN (power), 8 NC, 9 EP (power)

## TC1302A-FFVMF
designator U?
Low Quiescent Current Dual Output LDO, 8-Pin DFN, Extended Temperature; Published: 29-Jan-2009; DatasheetVersion: revB, Jan-2005; PackageVersion: revBB, Aug-2009; PackageReference: DFN-MF8; Publisher: Altium Limited; PackageDescription: 8-Lead Plastic Dual Flat, No Lead Package (MF) - 3x3x0.9mm Body [DFN]; ComponentLink1Description: Datasheet; ComponentLink1URL: http://ww1.microchip.com/downloads/en/DeviceDoc/21333b.pdf; ComponentLink2Description: Packaging Specification; ComponentLink2URL: http://www.microchip.com/stellent/groups/techpub_sg/documents/packagingspec/en012702.pdf; ComponentLink3Description: Microchip.com Home; ComponentLink3URL: http://www.microchip.com/
footprint DFN-MF8 (SON, 8-Leads, Body 3x3mm, Pitch 0.65mm, Microchip Recommended)
pins: 1 NC, 2 VOUT1 (power), 3 GND (power), 4 BYPASS, 5 ~{SHDN2} (in), 6 VOUT2 (power), 7 VIN (power), 8 NC, 9 EP (power)

## TC1302A-FFVMFTR
designator U?
Low Quiescent Current Dual Output LDO, 8-Pin DFN, Extended Temperature, Tape and Reel; Published: 29-Jan-2009; DatasheetVersion: revB, Jan-2005; PackageVersion: revBB, Aug-2009; PackageReference: DFN-MF8; Publisher: Altium Limited; PackageDescription: 8-Lead Plastic Dual Flat, No Lead Package (MF) - 3x3x0.9mm Body [DFN]; ComponentLink1Description: Datasheet; ComponentLink1URL: http://ww1.microchip.com/downloads/en/DeviceDoc/21333b.pdf; ComponentLink2Description: Packaging Specification; ComponentLink2URL: http://www.microchip.com/stellent/groups/techpub_sg/documents/packagingspec/en012702.pdf; ComponentLink3Description: Microchip.com Home; ComponentLink3URL: http://www.microchip.com/
footprint DFN-MF8 (SON, 8-Leads, Body 3x3mm, Pitch 0.65mm, Microchip Recommended)
pins: 1 NC, 2 VOUT1 (power), 3 GND (power), 4 BYPASS, 5 ~{SHDN2} (in), 6 VOUT2 (power), 7 VIN (power), 8 NC, 9 EP (power)

## TC1302A-HPVMF
designator U?
Low Quiescent Current Dual Output LDO, 8-Pin DFN, Extended Temperature; Published: 29-Jan-2009; DatasheetVersion: revB, Jan-2005; PackageVersion: revBB, Aug-2009; PackageReference: DFN-MF8; Publisher: Altium Limited; PackageDescription: 8-Lead Plastic Dual Flat, No Lead Package (MF) - 3x3x0.9mm Body [DFN]; ComponentLink1Description: Datasheet; ComponentLink1URL: http://ww1.microchip.com/downloads/en/DeviceDoc/21333b.pdf; ComponentLink2Description: Packaging Specification; ComponentLink2URL: http://www.microchip.com/stellent/groups/techpub_sg/documents/packagingspec/en012702.pdf; ComponentLink3Description: Microchip.com Home; ComponentLink3URL: http://www.microchip.com/
footprint DFN-MF8 (SON, 8-Leads, Body 3x3mm, Pitch 0.65mm, Microchip Recommended)
pins: 1 NC, 2 VOUT1 (power), 3 GND (power), 4 BYPASS, 5 ~{SHDN2} (in), 6 VOUT2 (power), 7 VIN (power), 8 NC, 9 EP (power)

## TC1302A-HPVUA
designator U?
Low Quiescent Current Dual Output LDO, 8-Pin MSOP, Extended Temperature; Published: 29-Jan-2009; DatasheetVersion: revB, Jan-2005; PackageVersion: revBB, Aug-2009; PackageReference: MSOP-UA8; Publisher: Altium Limited; PackageDescription: 8-Lead Plastic Micro Small Outline Package (UA) [MSOP]; Code_JEDEC: MO-187-AA; ComponentLink1Description: Datasheet; ComponentLink1URL: http://ww1.microchip.com/downloads/en/DeviceDoc/21333b.pdf; ComponentLink2Description: Packaging Specification; ComponentLink2URL: http://www.microchip.com/stellent/groups/techpub_sg/documents/packagingspec/en012702.pdf; ComponentLink3Description: Microchip.com Home; ComponentLink3URL: http://www.microchip.com/
footprint MSOP-UA8_N (TSOP, 8-Leads, Body 3x3mm, Pitch 0.65mm, IPC Medium Density)
footprint MSOP-UA8_L (TSOP, 8-Leads, Body 3x3mm, Pitch 0.65mm, IPC High Density)
footprint MSOP-UA8_M (TSOP, 8-Leads, Body 3x3mm, Pitch 0.65mm, IPC Low Density)
pins: 1 NC, 2 VOUT1 (power), 3 GND (power), 4 BYPASS, 5 ~{SHDN2} (in), 6 VOUT2 (power), 7 VIN (power), 8 NC

## TC1302A-IAVMF
designator U?
Low Quiescent Current Dual Output LDO, 8-Pin DFN, Extended Temperature; Published: 29-Jan-2009; DatasheetVersion: revB, Jan-2005; PackageVersion: revBB, Aug-2009; PackageReference: DFN-MF8; Publisher: Altium Limited; PackageDescription: 8-Lead Plastic Dual Flat, No Lead Package (MF) - 3x3x0.9mm Body [DFN]; Supplier 1: Digi-Key; Supplier Part Number 1: TC1302A-IAVMF-ND; ComponentLink1Description: Datasheet; ComponentLink1URL: http://ww1.microchip.com/downloads/en/DeviceDoc/21333b.pdf; ComponentLink2Description: Packaging Specification; ComponentLink2URL: http://www.microchip.com/stellent/groups/techpub_sg/documents/packagingspec/en012702.pdf; ComponentLink3Description: Microchip.com Home; ComponentLink3URL: http://www.microchip.com/
footprint DFN-MF8 (SON, 8-Leads, Body 3x3mm, Pitch 0.65mm, Microchip Recommended)
pins: 1 NC, 2 VOUT1 (power), 3 GND (power), 4 BYPASS, 5 ~{SHDN2} (in), 6 VOUT2 (power), 7 VIN (power), 8 NC, 9 EP (power)

## TC1302A-IAVMFTR
designator U?
Low Quiescent Current Dual Output LDO, 8-Pin DFN, Extended Temperature, Tape and Reel; Published: 29-Jan-2009; DatasheetVersion: revB, Jan-2005; PackageVersion: revBB, Aug-2009; PackageReference: DFN-MF8; Publisher: Altium Limited; PackageDescription: 8-Lead Plastic Dual Flat, No Lead Package (MF) - 3x3x0.9mm Body [DFN]; Supplier 1: Digi-Key; Supplier Part Number 1: TC1302A-IAVMFTR-ND; ComponentLink1Description: Datasheet; ComponentLink1URL: http://ww1.microchip.com/downloads/en/DeviceDoc/21333b.pdf; ComponentLink2Description: Packaging Specification; ComponentLink2URL: http://www.microchip.com/stellent/groups/techpub_sg/documents/packagingspec/en012702.pdf; ComponentLink3Description: Microchip.com Home; ComponentLink3URL: http://www.microchip.com/
footprint DFN-MF8 (SON, 8-Leads, Body 3x3mm, Pitch 0.65mm, Microchip Recommended)
pins: 1 NC, 2 VOUT1 (power), 3 GND (power), 4 BYPASS, 5 ~{SHDN2} (in), 6 VOUT2 (power), 7 VIN (power), 8 NC, 9 EP (power)

## TC1302A-IPVMF
designator U?
Low Quiescent Current Dual Output LDO, 8-Pin DFN, Extended Temperature; Published: 29-Jan-2009; DatasheetVersion: revB, Jan-2005; PackageVersion: revBB, Aug-2009; PackageReference: DFN-MF8; Publisher: Altium Limited; PackageDescription: 8-Lead Plastic Dual Flat, No Lead Package (MF) - 3x3x0.9mm Body [DFN]; ComponentLink1Description: Datasheet; ComponentLink1URL: http://ww1.microchip.com/downloads/en/DeviceDoc/21333b.pdf; ComponentLink2Description: Packaging Specification; ComponentLink2URL: http://www.microchip.com/stellent/groups/techpub_sg/documents/packagingspec/en012702.pdf; ComponentLink3Description: Microchip.com Home; ComponentLink3URL: http://www.microchip.com/
footprint DFN-MF8 (SON, 8-Leads, Body 3x3mm, Pitch 0.65mm, Microchip Recommended)
pins: 1 NC, 2 VOUT1 (power), 3 GND (power), 4 BYPASS, 5 ~{SHDN2} (in), 6 VOUT2 (power), 7 VIN (power), 8 NC, 9 EP (power)

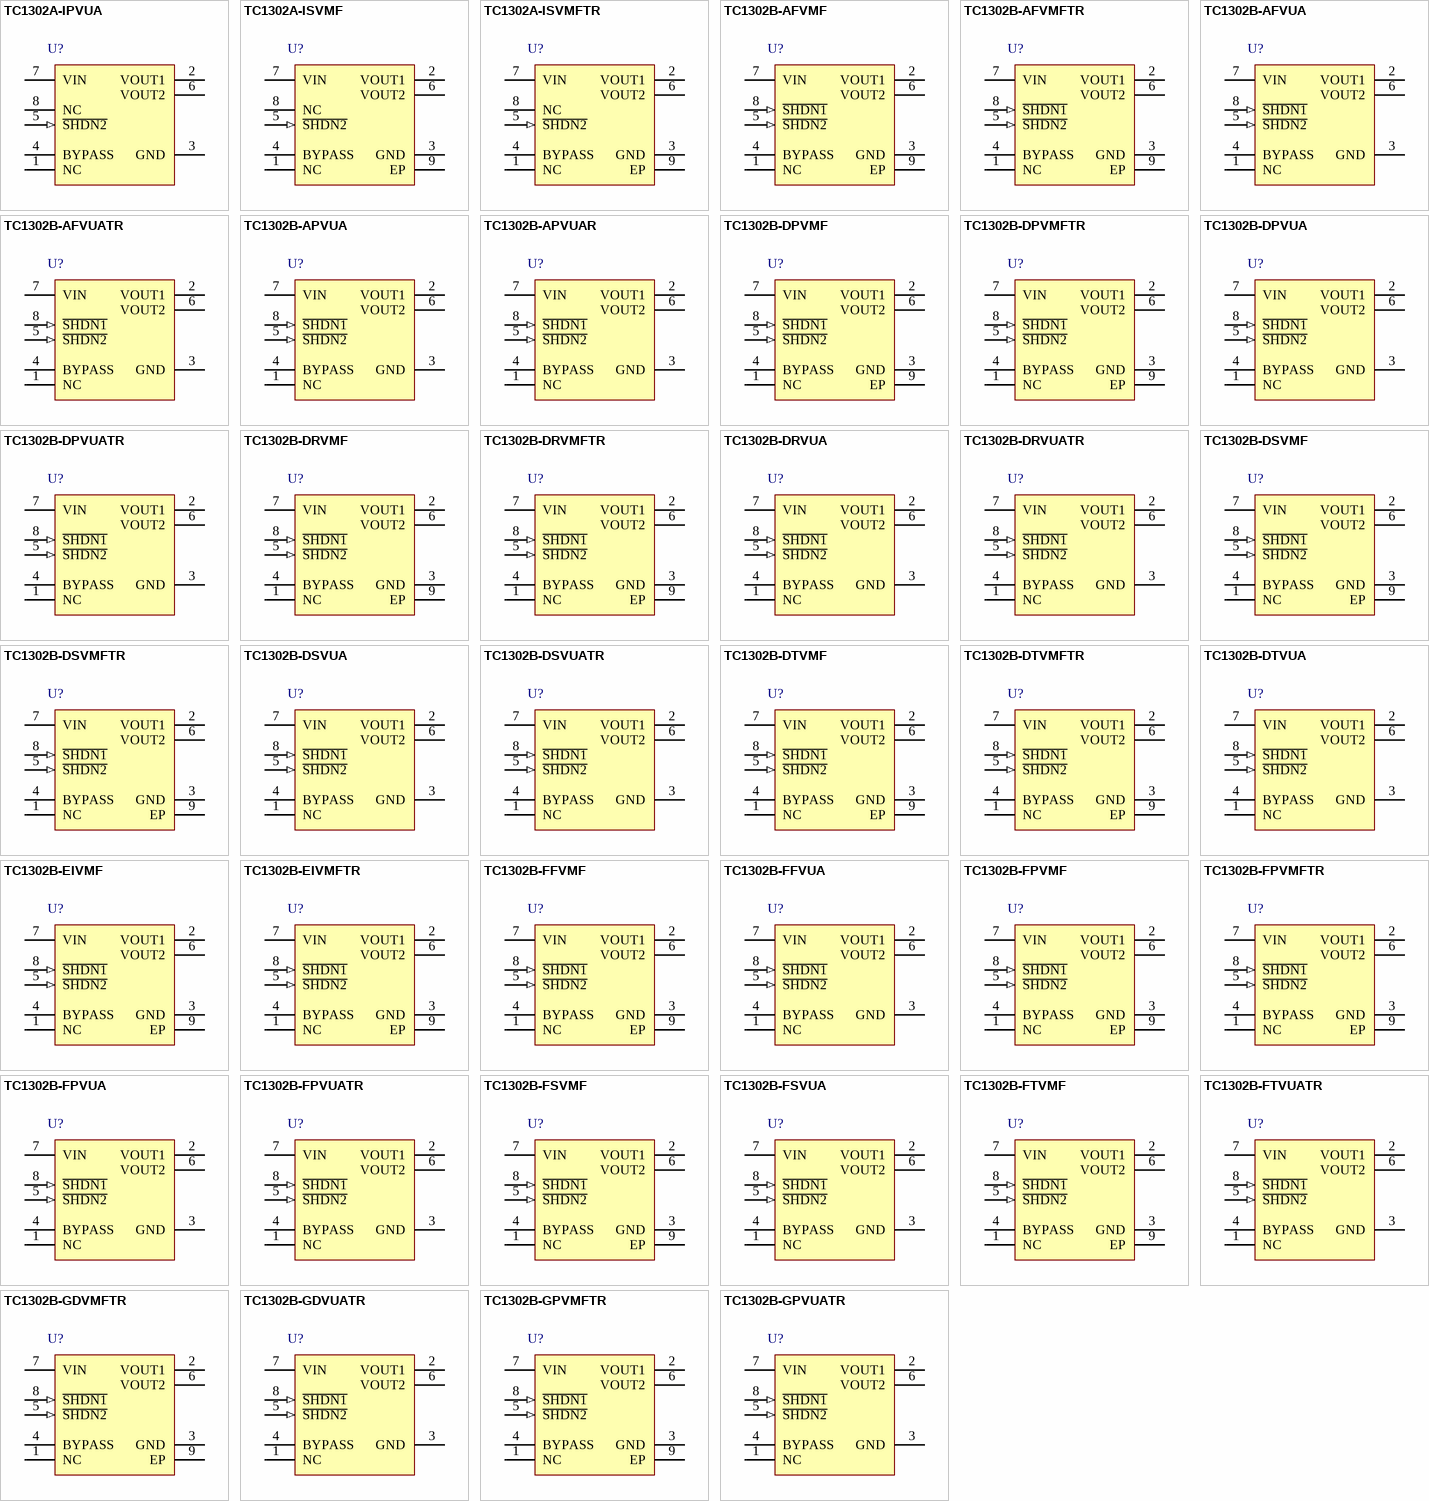
[diagram p24: symbols TC1302A-IPVUA to TC1302B-GPVUATR]

## TC1302A-IPVUA
designator U?
Low Quiescent Current Dual Output LDO, 8-Pin MSOP, Extended Temperature; Published: 29-Jan-2009; DatasheetVersion: revB, Jan-2005; PackageVersion: revBB, Aug-2009; PackageReference: MSOP-UA8; Publisher: Altium Limited; PackageDescription: 8-Lead Plastic Micro Small Outline Package (UA) [MSOP]; Code_JEDEC: MO-187-AA; ComponentLink1Description: Datasheet; ComponentLink1URL: http://ww1.microchip.com/downloads/en/DeviceDoc/21333b.pdf; ComponentLink2Description: Packaging Specification; ComponentLink2URL: http://www.microchip.com/stellent/groups/techpub_sg/documents/packagingspec/en012702.pdf; ComponentLink3Description: Microchip.com Home; ComponentLink3URL: http://www.microchip.com/
footprint MSOP-UA8_N (TSOP, 8-Leads, Body 3x3mm, Pitch 0.65mm, IPC Medium Density)
footprint MSOP-UA8_L (TSOP, 8-Leads, Body 3x3mm, Pitch 0.65mm, IPC High Density)
footprint MSOP-UA8_M (TSOP, 8-Leads, Body 3x3mm, Pitch 0.65mm, IPC Low Density)
pins: 1 NC, 2 VOUT1 (power), 3 GND (power), 4 BYPASS, 5 ~{SHDN2} (in), 6 VOUT2 (power), 7 VIN (power), 8 NC

## TC1302A-ISVMF
designator U?
Low Quiescent Current Dual Output LDO, 8-Pin DFN, Industrial Temperature; Published: 29-Jan-2009; DatasheetVersion: revB, Jan-2005; PackageVersion: revBB, Aug-2009; PackageReference: DFN-MF8; Publisher: Altium Limited; PackageDescription: 8-Lead Plastic Dual Flat, No Lead Package (MF) - 3x3x0.9mm Body [DFN]; ComponentLink1Description: Datasheet; ComponentLink1URL: http://ww1.microchip.com/downloads/en/DeviceDoc/21333b.pdf; ComponentLink2Description: Packaging Specification; ComponentLink2URL: http://www.microchip.com/stellent/groups/techpub_sg/documents/packagingspec/en012702.pdf; ComponentLink3Description: Microchip.com Home; ComponentLink3URL: http://www.microchip.com/
footprint DFN-MF8 (SON, 8-Leads, Body 3x3mm, Pitch 0.65mm, Microchip Recommended)
pins: 1 NC, 2 VOUT1 (power), 3 GND (power), 4 BYPASS, 5 ~{SHDN2} (in), 6 VOUT2 (power), 7 VIN (power), 8 NC, 9 EP (power)

## TC1302A-ISVMFTR
designator U?
Low Quiescent Current Dual Output LDO, 8-Pin DFN, Extended Temperature, Tape and Reel; Published: 29-Jan-2009; DatasheetVersion: revB, Jan-2005; PackageVersion: revBB, Aug-2009; PackageReference: DFN-MF8; Publisher: Altium Limited; PackageDescription: 8-Lead Plastic Dual Flat, No Lead Package (MF) - 3x3x0.9mm Body [DFN]; ComponentLink1Description: Datasheet; ComponentLink1URL: http://ww1.microchip.com/downloads/en/DeviceDoc/21333b.pdf; ComponentLink2Description: Packaging Specification; ComponentLink2URL: http://www.microchip.com/stellent/groups/techpub_sg/documents/packagingspec/en012702.pdf; ComponentLink3Description: Microchip.com Home; ComponentLink3URL: http://www.microchip.com/
footprint DFN-MF8 (SON, 8-Leads, Body 3x3mm, Pitch 0.65mm, Microchip Recommended)
pins: 1 NC, 2 VOUT1 (power), 3 GND (power), 4 BYPASS, 5 ~{SHDN2} (in), 6 VOUT2 (power), 7 VIN (power), 8 NC, 9 EP (power)

## TC1302B-AFVMF
designator U?
Low Quiescent Current Dual Output LDO, 8-Pin DFN, Extended Temperature; Published: 29-Jan-2009; DatasheetVersion: revB, Jan-2005; PackageVersion: revBB, Aug-2009; PackageReference: DFN-MF8; Publisher: Altium Limited; PackageDescription: 8-Lead Plastic Dual Flat, No Lead Package (MF) - 3x3x0.9mm Body [DFN]; ComponentLink1Description: Datasheet; ComponentLink1URL: http://ww1.microchip.com/downloads/en/DeviceDoc/21333b.pdf; ComponentLink2Description: Packaging Specification; ComponentLink2URL: http://www.microchip.com/stellent/groups/techpub_sg/documents/packagingspec/en012702.pdf; ComponentLink3Description: Microchip.com Home; ComponentLink3URL: http://www.microchip.com/
footprint DFN-MF8 (SON, 8-Leads, Body 3x3mm, Pitch 0.65mm, Microchip Recommended)
pins: 1 NC, 2 VOUT1 (power), 3 GND (power), 4 BYPASS, 5 ~{SHDN2} (in), 6 VOUT2 (power), 7 VIN (power), 8 ~{SHDN1} (in), 9 EP (power)

## TC1302B-AFVMFTR
designator U?
Low Quiescent Current Dual Output LDO, 8-Pin DFN, Extended Temperature, Tape and Reel; Published: 29-Jan-2009; DatasheetVersion: revB, Jan-2005; PackageVersion: revBB, Aug-2009; PackageReference: DFN-MF8; Publisher: Altium Limited; PackageDescription: 8-Lead Plastic Dual Flat, No Lead Package (MF) - 3x3x0.9mm Body [DFN]; ComponentLink1Description: Datasheet; ComponentLink1URL: http://ww1.microchip.com/downloads/en/DeviceDoc/21333b.pdf; ComponentLink2Description: Packaging Specification; ComponentLink2URL: http://www.microchip.com/stellent/groups/techpub_sg/documents/packagingspec/en012702.pdf; ComponentLink3Description: Microchip.com Home; ComponentLink3URL: http://www.microchip.com/
footprint DFN-MF8 (SON, 8-Leads, Body 3x3mm, Pitch 0.65mm, Microchip Recommended)
pins: 1 NC, 2 VOUT1 (power), 3 GND (power), 4 BYPASS, 5 ~{SHDN2} (in), 6 VOUT2 (power), 7 VIN (power), 8 ~{SHDN1} (in), 9 EP (power)

## TC1302B-AFVUA
designator U?
Low Quiescent Current Dual Output LDO, 8-Pin MSOP, Extended Temperature; Published: 29-Jan-2009; DatasheetVersion: revB, Jan-2005; PackageVersion: revBB, Aug-2009; PackageReference: MSOP-UA8; Publisher: Altium Limited; PackageDescription: 8-Lead Plastic Micro Small Outline Package (UA) [MSOP]; Code_JEDEC: MO-187-AA; ComponentLink1Description: Datasheet; ComponentLink1URL: http://ww1.microchip.com/downloads/en/DeviceDoc/21333b.pdf; ComponentLink2Description: Packaging Specification; ComponentLink2URL: http://www.microchip.com/stellent/groups/techpub_sg/documents/packagingspec/en012702.pdf; ComponentLink3Description: Microchip.com Home; ComponentLink3URL: http://www.microchip.com/
footprint MSOP-UA8_N (TSOP, 8-Leads, Body 3x3mm, Pitch 0.65mm, IPC Medium Density)
footprint MSOP-UA8_L (TSOP, 8-Leads, Body 3x3mm, Pitch 0.65mm, IPC High Density)
footprint MSOP-UA8_M (TSOP, 8-Leads, Body 3x3mm, Pitch 0.65mm, IPC Low Density)
pins: 1 NC, 2 VOUT1 (power), 3 GND (power), 4 BYPASS, 5 ~{SHDN2} (in), 6 VOUT2 (power), 7 VIN (power), 8 ~{SHDN1} (in)

## TC1302B-AFVUATR
designator U?
Low Quiescent Current Dual Output LDO, 8-Pin MSOP, Extended Temperature, Tape and Reel; Published: 29-Jan-2009; DatasheetVersion: revB, Jan-2005; PackageVersion: revBB, Aug-2009; PackageReference: MSOP-UA8; Publisher: Altium Limited; PackageDescription: 8-Lead Plastic Micro Small Outline Package (UA) [MSOP]; Code_JEDEC: MO-187-AA; ComponentLink1Description: Datasheet; ComponentLink1URL: http://ww1.microchip.com/downloads/en/DeviceDoc/21333b.pdf; ComponentLink2Description: Packaging Specification; ComponentLink2URL: http://www.microchip.com/stellent/groups/techpub_sg/documents/packagingspec/en012702.pdf; ComponentLink3Description: Microchip.com Home; ComponentLink3URL: http://www.microchip.com/
footprint MSOP-UA8_N (TSOP, 8-Leads, Body 3x3mm, Pitch 0.65mm, IPC Medium Density)
footprint MSOP-UA8_L (TSOP, 8-Leads, Body 3x3mm, Pitch 0.65mm, IPC High Density)
footprint MSOP-UA8_M (TSOP, 8-Leads, Body 3x3mm, Pitch 0.65mm, IPC Low Density)
pins: 1 NC, 2 VOUT1 (power), 3 GND (power), 4 BYPASS, 5 ~{SHDN2} (in), 6 VOUT2 (power), 7 VIN (power), 8 ~{SHDN1} (in)

## TC1302B-APVUA
designator U?
Low Quiescent Current Dual Output LDO, 8-Pin MSOP, Extended Temperature; Published: 29-Jan-2009; DatasheetVersion: revB, Jan-2005; PackageVersion: revBB, Aug-2009; PackageReference: MSOP-UA8; Publisher: Altium Limited; PackageDescription: 8-Lead Plastic Micro Small Outline Package (UA) [MSOP]; Code_JEDEC: MO-187-AA; ComponentLink1Description: Datasheet; ComponentLink1URL: http://ww1.microchip.com/downloads/en/DeviceDoc/21333b.pdf; ComponentLink2Description: Packaging Specification; ComponentLink2URL: http://www.microchip.com/stellent/groups/techpub_sg/documents/packagingspec/en012702.pdf; ComponentLink3Description: Microchip.com Home; ComponentLink3URL: http://www.microchip.com/
footprint MSOP-UA8_N (TSOP, 8-Leads, Body 3x3mm, Pitch 0.65mm, IPC Medium Density)
footprint MSOP-UA8_L (TSOP, 8-Leads, Body 3x3mm, Pitch 0.65mm, IPC High Density)
footprint MSOP-UA8_M (TSOP, 8-Leads, Body 3x3mm, Pitch 0.65mm, IPC Low Density)
pins: 1 NC, 2 VOUT1 (power), 3 GND (power), 4 BYPASS, 5 ~{SHDN2} (in), 6 VOUT2 (power), 7 VIN (power), 8 ~{SHDN1} (in)

## TC1302B-APVUAR
designator U?
Low Quiescent Current Dual Output LDO, 8-Pin MSOP, Extended Temperature, Tape and Reel; Published: 29-Jan-2009; DatasheetVersion: revB, Jan-2005; PackageVersion: revBB, Aug-2009; PackageReference: MSOP-UA8; Publisher: Altium Limited; PackageDescription: 8-Lead Plastic Micro Small Outline Package (UA) [MSOP]; Code_JEDEC: MO-187-AA; ComponentLink1Description: Datasheet; ComponentLink1URL: http://ww1.microchip.com/downloads/en/DeviceDoc/21333b.pdf; ComponentLink2Description: Packaging Specification; ComponentLink2URL: http://www.microchip.com/stellent/groups/techpub_sg/documents/packagingspec/en012702.pdf; ComponentLink3Description: Microchip.com Home; ComponentLink3URL: http://www.microchip.com/
footprint MSOP-UA8_N (TSOP, 8-Leads, Body 3x3mm, Pitch 0.65mm, IPC Medium Density)
footprint MSOP-UA8_L (TSOP, 8-Leads, Body 3x3mm, Pitch 0.65mm, IPC High Density)
footprint MSOP-UA8_M (TSOP, 8-Leads, Body 3x3mm, Pitch 0.65mm, IPC Low Density)
pins: 1 NC, 2 VOUT1 (power), 3 GND (power), 4 BYPASS, 5 ~{SHDN2} (in), 6 VOUT2 (power), 7 VIN (power), 8 ~{SHDN1} (in)

## TC1302B-DPVMF
designator U?
Low Quiescent Current Dual Output LDO, 8-Pin DFN, Extended Temperature; Published: 29-Jan-2009; DatasheetVersion: revB, Jan-2005; PackageVersion: revBB, Aug-2009; PackageReference: DFN-MF8; Publisher: Altium Limited; PackageDescription: 8-Lead Plastic Dual Flat, No Lead Package (MF) - 3x3x0.9mm Body [DFN]; ComponentLink1Description: Datasheet; ComponentLink1URL: http://ww1.microchip.com/downloads/en/DeviceDoc/21333b.pdf; ComponentLink2Description: Packaging Specification; ComponentLink2URL: http://www.microchip.com/stellent/groups/techpub_sg/documents/packagingspec/en012702.pdf; ComponentLink3Description: Microchip.com Home; ComponentLink3URL: http://www.microchip.com/
footprint DFN-MF8 (SON, 8-Leads, Body 3x3mm, Pitch 0.65mm, Microchip Recommended)
pins: 1 NC, 2 VOUT1 (power), 3 GND (power), 4 BYPASS, 5 ~{SHDN2} (in), 6 VOUT2 (power), 7 VIN (power), 8 ~{SHDN1} (in), 9 EP (power)

## TC1302B-DPVMFTR
designator U?
Low Quiescent Current Dual Output LDO, 8-Pin DFN, Extended Temperature, Tape and Reel; Published: 29-Jan-2009; DatasheetVersion: revB, Jan-2005; PackageVersion: revBB, Aug-2009; PackageReference: DFN-MF8; Publisher: Altium Limited; PackageDescription: 8-Lead Plastic Dual Flat, No Lead Package (MF) - 3x3x0.9mm Body [DFN]; ComponentLink1Description: Datasheet; ComponentLink1URL: http://ww1.microchip.com/downloads/en/DeviceDoc/21333b.pdf; ComponentLink2Description: Packaging Specification; ComponentLink2URL: http://www.microchip.com/stellent/groups/techpub_sg/documents/packagingspec/en012702.pdf; ComponentLink3Description: Microchip.com Home; ComponentLink3URL: http://www.microchip.com/
footprint DFN-MF8 (SON, 8-Leads, Body 3x3mm, Pitch 0.65mm, Microchip Recommended)
pins: 1 NC, 2 VOUT1 (power), 3 GND (power), 4 BYPASS, 5 ~{SHDN2} (in), 6 VOUT2 (power), 7 VIN (power), 8 ~{SHDN1} (in), 9 EP (power)

## TC1302B-DPVUA
designator U?
Low Quiescent Current Dual Output LDO, 8-Pin MSOP, Extended Temperature; Published: 29-Jan-2009; DatasheetVersion: revB, Jan-2005; PackageVersion: revBB, Aug-2009; PackageReference: MSOP-UA8; Publisher: Altium Limited; PackageDescription: 8-Lead Plastic Micro Small Outline Package (UA) [MSOP]; Code_JEDEC: MO-187-AA; ComponentLink1Description: Datasheet; ComponentLink1URL: http://ww1.microchip.com/downloads/en/DeviceDoc/21333b.pdf; ComponentLink2Description: Packaging Specification; ComponentLink2URL: http://www.microchip.com/stellent/groups/techpub_sg/documents/packagingspec/en012702.pdf; ComponentLink3Description: Microchip.com Home; ComponentLink3URL: http://www.microchip.com/
footprint MSOP-UA8_N (TSOP, 8-Leads, Body 3x3mm, Pitch 0.65mm, IPC Medium Density)
footprint MSOP-UA8_L (TSOP, 8-Leads, Body 3x3mm, Pitch 0.65mm, IPC High Density)
footprint MSOP-UA8_M (TSOP, 8-Leads, Body 3x3mm, Pitch 0.65mm, IPC Low Density)
pins: 1 NC, 2 VOUT1 (power), 3 GND (power), 4 BYPASS, 5 ~{SHDN2} (in), 6 VOUT2 (power), 7 VIN (power), 8 ~{SHDN1} (in)

## TC1302B-DPVUATR
designator U?
Low Quiescent Current Dual Output LDO, 8-Pin MSOP, Extended Temperature, Tape and Reel; Published: 29-Jan-2009; DatasheetVersion: revB, Jan-2005; PackageVersion: revBB, Aug-2009; PackageReference: MSOP-UA8; Publisher: Altium Limited; PackageDescription: 8-Lead Plastic Micro Small Outline Package (UA) [MSOP]; Code_JEDEC: MO-187-AA; ComponentLink1Description: Datasheet; ComponentLink1URL: http://ww1.microchip.com/downloads/en/DeviceDoc/21333b.pdf; ComponentLink2Description: Packaging Specification; ComponentLink2URL: http://www.microchip.com/stellent/groups/techpub_sg/documents/packagingspec/en012702.pdf; ComponentLink3Description: Microchip.com Home; ComponentLink3URL: http://www.microchip.com/
footprint MSOP-UA8_N (TSOP, 8-Leads, Body 3x3mm, Pitch 0.65mm, IPC Medium Density)
footprint MSOP-UA8_L (TSOP, 8-Leads, Body 3x3mm, Pitch 0.65mm, IPC High Density)
footprint MSOP-UA8_M (TSOP, 8-Leads, Body 3x3mm, Pitch 0.65mm, IPC Low Density)
pins: 1 NC, 2 VOUT1 (power), 3 GND (power), 4 BYPASS, 5 ~{SHDN2} (in), 6 VOUT2 (power), 7 VIN (power), 8 ~{SHDN1} (in)

## TC1302B-DRVMF
designator U?
Low Quiescent Current Dual Output LDO, 8-Pin DFN, Extended Temperature; Published: 29-Jan-2009; DatasheetVersion: revB, Jan-2005; PackageVersion: revBB, Aug-2009; PackageReference: DFN-MF8; Publisher: Altium Limited; PackageDescription: 8-Lead Plastic Dual Flat, No Lead Package (MF) - 3x3x0.9mm Body [DFN]; ComponentLink1Description: Datasheet; ComponentLink1URL: http://ww1.microchip.com/downloads/en/DeviceDoc/21333b.pdf; ComponentLink2Description: Packaging Specification; ComponentLink2URL: http://www.microchip.com/stellent/groups/techpub_sg/documents/packagingspec/en012702.pdf; ComponentLink3Description: Microchip.com Home; ComponentLink3URL: http://www.microchip.com/
footprint DFN-MF8 (SON, 8-Leads, Body 3x3mm, Pitch 0.65mm, Microchip Recommended)
pins: 1 NC, 2 VOUT1 (power), 3 GND (power), 4 BYPASS, 5 ~{SHDN2} (in), 6 VOUT2 (power), 7 VIN (power), 8 ~{SHDN1} (in), 9 EP (power)